# Altium schematic symbol library TCA9554.SchLib: 1 symbol
Pins are listed as number, name and electrical type; pins without a type are passive.

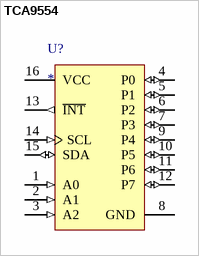
[diagram p0: symbol TCA9554]

## TCA9554
designator U?
Low Voltage 8-Bit I2C and SMBus, Low-Power I/O Expander With Interrupt Output / and Configuration Registers.
footprint TSSOP-16
pins: 1 A0 (in) "Address input. Connect directly to VCC or ground.", 2 A1 (in) "Address input. Connect directly to VCC or ground.", 3 A2 (in) "Address input. Connect directly to VCC or ground.", 4 P0 (io) "P-port input/output. Push-pull design structure. At power-on, P0 is configured as an input.", 5 P1 (io) "P-port input/output. Push-pull design structure. At power-on, P1 is configured as an input.", 6 P2 (io) "P-port input/output. Push-pull design structure. At power-on, P2 is configured as an input.", 7 P3 (io) "P-port input/output. Push-pull design structure. At power-on, P3 is configured as an input.", 8 GND (power) "Ground.", 9 P4 (io) "P-port input/output. Push-pull design structure. At power-on, P4 is configured as an input.", 10 P5 (io) "P-port input/output. Push-pull design structure. At power-on, P5 is configured as an input.", 11 P6 (io) "P-port input/output. Push-pull design structure. At power-on, P6 is configured as an input.", 12 P7 (io) "P-port input/output. Push-pull design structure. At power-on, P7 is configured as an input.", 13 ~{INT} (out) "Interrupt output. Connect to VCC through a pullup resistor.", 14 SCL (in) "Serial clock bus. Connect to VCC through a pullup resistor.", 15 SDA (io) "Serial data bus. Connect to VCC through a pullup resistor.", 16 VCC (power) "Supply voltage."